# Altium footprint library Connector.PcbLib: 3 footprints
Each footprint in its own frame and in the unit in brackets; x right, y up, seen from the top. Pads: shape width x height; smd on the part's side, far side on the other; paste and mask are expansions set on the pad; w line width, h text height; cw(c..) or ccw(c..) is an arc to the next point about the centre after c.
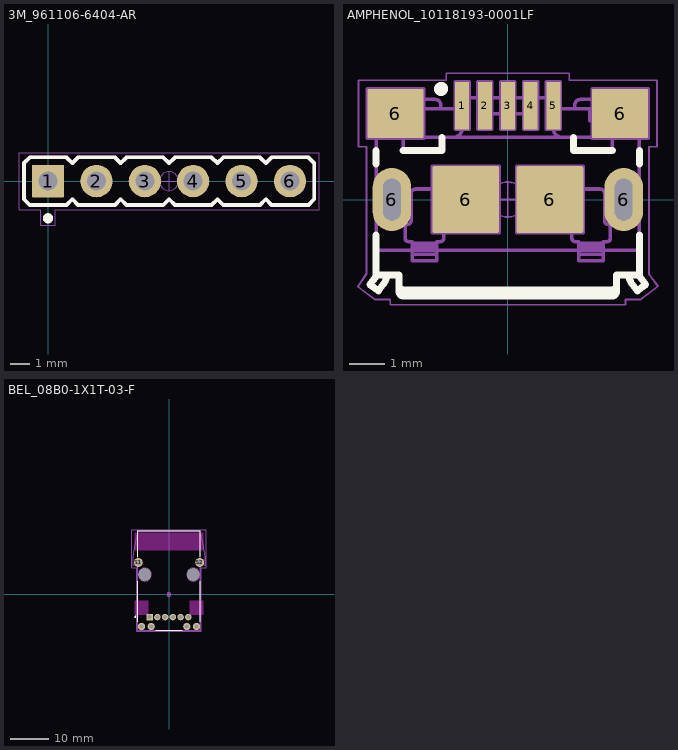
[diagram p0: the footprints below, top view; thin cyan lines are the x and y axes]

## 3M_961106-6404-AR [mm] "6 Contacts, Straight .100\" x .100\" Pin Strip Header, 961 Series"
height 8
pads (6):
  rrect5% 1.7x1.7 hole 1 mask+0.05: 1(0,0)
  round 1.7 hole 1 mask+0.05: 2(2.54,0) 3(5.08,0) 4(7.62,0) 5(10.16,0) 6(12.7,0)
Top Overlay:
  circle w0.27: c0,-1.95 r0.13
  lines w0.2: -1.265,-0.95 -1.265,0.95 -1.26,0.95 -0.96,1.25 0.97,1.25 1.27,0.95 1.28,0.95 1.58,1.25 3.51,1.25 3.81,0.95 3.82,0.95 4.12,1.25 6.05,1.25 6.35,0.95 6.36,0.95 6.66,1.25 8.59,1.25 8.89,0.95 8.9,0.95 9.2,1.25 11.13,1.25 11.43,0.95 11.44,0.95 11.74,1.25 13.67,1.25 13.97,0.95 13.98,0.95 13.98,-0.95 13.97,-0.95 13.67,-1.25 11.74,-1.25 11.44,-0.95 11.43,-0.95 11.13,-1.25 9.2,-1.25 8.9,-0.95 8.89,-0.95 8.59,-1.25 6.66,-1.25 6.36,-0.95 6.35,-0.95 6.05,-1.25 4.12,-1.25 3.82,-0.95 3.81,-0.95 3.51,-1.25 1.58,-1.25 1.28,-0.95 1.27,-0.95 0.97,-1.25 -0.96,-1.25 -1.26,-0.95 -1.265,-0.95
Top Component Outline:
  circle w0.27: c0,-1.95 r0.13
  lines w0.2: -1.265,-0.95 -1.26,-0.95 -0.96,-1.25 0.97,-1.25 1.27,-0.95 1.28,-0.95 1.58,-1.25 3.51,-1.25 3.81,-0.95 3.82,-0.95 4.12,-1.25 6.05,-1.25 6.35,-0.95 6.36,-0.95 6.66,-1.25 8.59,-1.25 8.89,-0.95 8.9,-0.95 9.2,-1.25 11.13,-1.25 11.43,-0.95 11.44,-0.95 11.74,-1.25 13.67,-1.25 13.97,-0.95 13.98,-0.95 13.98,0.95 13.97,0.95 13.67,1.25 11.74,1.25 11.44,0.95 11.43,0.95 11.13,1.25 9.2,1.25 8.9,0.95 8.89,0.95 8.59,1.25 6.66,1.25 6.36,0.95 6.35,0.95 6.05,1.25 4.12,1.25 3.82,0.95 3.81,0.95 3.51,1.25 1.58,1.25 1.28,0.95 1.27,0.95 0.97,1.25 -0.96,1.25 -1.26,0.95 -1.265,0.95 -1.265,-0.95 ; -0.312,-0.318 0.323,-0.318 0.323,0.318 -0.312,0.318 -0.312,-0.318 ; 2.228,-0.318 2.228,0.318 2.863,0.318 2.863,-0.318 2.228,-0.318 ; 4.768,-0.318 4.768,0.318 5.403,0.318 5.403,-0.318 4.768,-0.318 ; 7.308,-0.318 7.943,-0.318 7.943,0.318 7.308,0.318 7.308,-0.318 ; 9.848,-0.318 10.483,-0.318 10.483,0.318 9.848,0.318 9.848,-0.318 ; 12.388,-0.318 12.388,0.318 13.023,0.318 13.023,-0.318 12.388,-0.318
Top Courtyard:
  lines w0.05: -1.525,-1.5 -0.375,-1.5 -0.375,-2.325 0.375,-2.325 0.375,-1.5 14.225,-1.5 14.225,1.5 -1.525,1.5 -1.525,-1.5
Top Component Center:
  circle w0.05: c6.35,0 r0.5
  lines w0.05: -0.5,0 0,0 ; 0,-0.5 0,0 ; 0,0.5 0,0 ; 0.5,0 0,0 ; 2.04,0 2.54,0 ; 2.54,-0.5 2.54,0 ; 2.54,0.5 2.54,0 ; 3.04,0 2.54,0 ; 4.58,0 5.08,0 ; 5.08,-0.5 5.08,0 ; 5.08,0.5 5.08,0 ; 5.58,0 5.08,0 ; 5.85,0 6.35,0 ; 6.35,-0.5 6.35,0 ; 6.35,0.5 6.35,0 ; 6.85,0 6.35,0 ; 7.12,0 7.62,0 ; 7.62,-0.5 7.62,0 ; 7.62,0.5 7.62,0 ; 8.12,0 7.62,0 ; 9.66,0 10.16,0 ; 10.16,-0.5 10.16,0 ; 10.16,0.5 10.16,0 ; 10.66,0 10.16,0 ; 12.2,0 12.7,0 ; 12.7,-0.5 12.7,0 ; 12.7,0.5 12.7,0 ; 13.2,0 12.7,0
Top Designator:
  text "'.Designator'" at 1.466,-0.448 h2
Top Assembly:
  circle w0.27: c0,-1.95 r0.13
  lines w0.2: -1.27,-0.95 -1.265,-0.95 -0.965,-1.25 0.965,-1.25 1.265,-0.95 1.275,-0.95 1.575,-1.25 3.505,-1.25 3.805,-0.95 3.815,-0.95 4.115,-1.25 6.045,-1.25 6.345,-0.95 6.355,-0.95 6.655,-1.25 8.585,-1.25 8.885,-0.95 8.895,-0.95 9.195,-1.25 11.125,-1.25 11.425,-0.95 11.435,-0.95 11.735,-1.25 13.665,-1.25 13.965,-0.95 13.975,-0.95 13.975,0.95 13.965,0.95 13.665,1.25 11.735,1.25 11.435,0.95 11.425,0.95 11.125,1.25 9.195,1.25 8.895,0.95 8.885,0.95 8.585,1.25 6.655,1.25 6.355,0.95 6.345,0.95 6.045,1.25 4.115,1.25 3.815,0.95 3.805,0.95 3.505,1.25 1.575,1.25 1.275,0.95 1.265,0.95 0.965,1.25 -0.965,1.25 -1.265,0.95 -1.27,0.95 -1.27,-0.95 ; -0.318,-0.318 0.318,-0.318 0.318,0.318 -0.318,0.318 -0.318,-0.318 ; 2.222,-0.318 2.222,0.318 2.857,0.318 2.857,-0.318 2.222,-0.318 ; 4.763,-0.318 4.763,0.318 5.397,0.318 5.397,-0.318 4.763,-0.318 ; 7.302,-0.318 7.938,-0.318 7.938,0.318 7.302,0.318 7.302,-0.318 ; 9.842,-0.318 10.477,-0.318 10.477,0.318 9.842,0.318 9.842,-0.318 ; 12.383,-0.318 12.383,0.318 13.018,0.318 13.018,-0.318 12.383,-0.318
  text "'.Designator'" at 1.466,-0.448 h2
3D body "3M_961106-6404-AR.stp": height 9.3, standoff -3.3, extent -1.27,-1.25 13.975,1.25

## AMPHENOL_10118193-0001LF [mm] "Right Angle Micro-USB 2 Type B Receptacle"
height 3.1
pads (11):
  rrect5% 0.4x1.35 smd mask+0.02: 1(-1.3,2.675) 2(-0.65,2.675) 3(0,2.675) 4(0.65,2.675) 5(1.3,2.675)
  oval 1.1x1.8 hole 0.5 slot 1.2 at 90 deg mask+0.05: 6(-3.3,0) 6(3.3,0)
  rrect5% 1.6x1.4 smd mask+0.05: 6(-3.2,2.45) 6(3.2,2.45)
  rrect5% 1.9x1.9 smd mask+0.05: 6(-1.2,0) 6(1.2,0)
Top Overlay:
  circle w0.2: c-1.9,3.15 r0.1
  lines w0.2: -3.75,-1.011 -3.75,-2.15 ; -3.75,1.011 -3.75,1.4 ; -3.449,-2.15 cw(c-3.854,-2.148) -3.531,-2.391 -3.689,-2.601 -3.928,-2.42 -3.77,-2.21 ccw(c-3.85,-2.15) -3.75,-2.15 ; -3.1,-2.451 ccw(c-2.963,-2.434) -2.95,-2.571 ; -3.1,-2.154 -3.1,-2.629 ccw(c-2.963,-2.613) -2.95,-2.75 2.95,-2.75 ccw(c2.963,-2.613) 3.1,-2.629 3.1,-2.15 3.75,-2.15 ; -3.1,-2.15 -3.75,-2.15 ; -2.98,1.39 -1.87,1.39 -1.87,1.77 ; 1.87,1.77 1.87,1.39 2.98,1.39 ; 3.1,-2.451 cw(c2.963,-2.434) 2.95,-2.571 ; 3.45,-2.15 ccw(c3.851,-2.15) 3.531,-2.391 3.689,-2.601 3.928,-2.42 3.77,-2.21 cw(c3.85,-2.15) 3.75,-2.15 ; 3.75,-1.011 3.75,-2.15 ; 3.75,1.011 3.75,1.4 ; -2.95,-2.571 2.95,-2.571 ; -2.95,-2.571 2.95,-2.571
Top Component Outline:
  circle w0.2: c-1.9,3.15 r0.1
  lines w0.1: -3.449,-2.15 cw(c-3.854,-2.148) -3.531,-2.391 -3.689,-2.601 -3.928,-2.42 -3.77,-2.21 ccw(c-3.85,-2.15) -3.75,-2.15 ; -3.1,-2.451 ccw(c-2.963,-2.434) -2.95,-2.571 ; -3.1,-2.154 -3.1,-2.629 ccw(c-2.963,-2.613) -2.95,-2.75 2.95,-2.75 ccw(c2.963,-2.613) 3.1,-2.629 3.1,-2.15 3.75,-2.15 ; -3.1,-2.15 -3.75,-2.15 ; -2.98,1.779 -2.98,1.39 -1.87,1.39 -1.87,1.77 1.87,1.77 1.87,1.39 2.98,1.39 2.98,1.779 ; -2.725,-1.563 -2.025,-1.563 ; -2.725,-1.35 -2.025,-1.35 ; -2.725,-1.25 -2.025,-1.25 ; -1.911,2.58 -1.911,2.7 ccw(c-2.061,2.7) -2.061,2.85 -3.75,2.85 -3.75,-2.15 ; -1.42,2.58 -1.42,2.9 1.42,2.9 1.42,2.58 ; -1.3,2.58 -2.427,2.58 -2.427,2.25 -2.905,2.25 ccw(c-2.919,2.05) -3.12,2.05 -3.12,1.97 ccw(c-2.92,1.97) -2.922,1.77 -1.55,1.77 ccw(c-1.55,2.02) -1.3,2.02 -1.3,2.9 ; -0.65,2.9 -0.65,2.6 ccw(c-0.5,2.6) -0.5,2.45 0.5,2.45 ccw(c0.5,2.6) 0.65,2.595 0.65,2.9 ; 1.3,2.58 2.33,2.58 2.33,2.25 2.92,2.25 cw(c2.92,2.05) 3.12,2.05 3.12,1.97 cw(c2.92,1.97) 2.92,1.77 1.55,1.77 cw(c1.55,2.02) 1.3,2.02 1.3,2.9 ; 1.911,2.58 1.911,2.7 cw(c2.061,2.7) 2.061,2.85 3.75,2.85 3.75,-2.15 ; 2.025,-1.563 2.725,-1.563 ; 2.025,-1.35 2.725,-1.35 ; 2.025,-1.25 2.725,-1.25 ; 3.1,-2.451 cw(c2.963,-2.434) 2.95,-2.571 ; 3.45,-2.15 ccw(c3.851,-2.15) 3.531,-2.391 3.689,-2.601 3.928,-2.42 3.77,-2.21 cw(c3.85,-2.15) 3.75,-2.15 ; -2.95,-2.571 2.95,-2.571 ; -2.95,-2.571 2.95,-2.571 ; -2.925,-1.1 ccw(c-2.825,-1.1) -2.825,-1.2 -2.725,-1.2 -2.725,-1.742 -2.025,-1.742 -2.025,-1.2 -1.925,-1.2 ccw(c-1.925,-1.1) -1.825,-1.1 -1.825,-0.8 ccw(c-1.925,-0.8) -1.91,-0.701 cw(c-1.895,-0.602) -1.995,-0.602 -1.995,0.17 ccw(c-2.125,0.17) -2.125,0.3 -2.625,0.3 ccw(c-2.625,0.17) -2.755,0.17 -2.755,-0.602 cw(c-2.855,-0.602) -2.84,-0.701 ccw(c-2.825,-0.8) -2.925,-0.8 -2.925,-1.1 ; 1.825,-1.1 ccw(c1.925,-1.1) 1.925,-1.2 2.025,-1.2 2.025,-1.742 2.725,-1.742 2.725,-1.2 2.825,-1.2 ccw(c2.825,-1.1) 2.925,-1.1 2.925,-0.8 ccw(c2.825,-0.8) 2.84,-0.701 cw(c2.855,-0.602) 2.755,-0.602 2.755,0.17 ccw(c2.625,0.17) 2.625,0.3 2.125,0.3 ccw(c2.125,0.17) 1.995,0.17 1.995,-0.602 cw(c1.895,-0.602) 1.91,-0.701 ccw(c1.925,-0.8) 1.825,-0.8 1.825,-1.1
Top Courtyard:
  lines w0.05: -4.267,-2.479 -4.025,-2.113 -4.025,1.5 -4.25,1.5 -4.25,3.4 -1.75,3.4 -1.75,3.6 1.75,3.6 1.75,3.4 4.25,3.4 4.25,1.5 4.025,1.5 4.025,-2.133 4.279,-2.469 3.773,-2.851 3.35,-2.851 3.35,-3 -3.35,-3 -3.35,-2.851 -3.773,-2.851 -4.267,-2.479
Top Component Center:
  circle w0.05: c0,0 r0.5
  lines w0.05: -0.5,0 0,0 ; 0,-0.5 0,0 ; 0,0.5 0,0 ; 0.5,0 0,0
  lines w0.1: -3.75,-1.45 0,-1.45 3.75,-1.45 ; -3.75,0 -3.3,0 ; -3.3,-0.8 -3.3,0 ; -3.3,0.8 -3.3,0 ; -2.85,0 -3.3,0 ; 2.85,0 3.3,0 ; 3.3,-0.8 3.3,0 ; 3.3,0.8 3.3,0 ; 3.75,0 3.3,0 ; -4,1.75 -4,3.15 ; -4,1.75 -3.2,2.45 -4,3.15 ; -4,1.75 -2.4,1.75 -2.4,3.15 -4,3.15 ; -2.15,-0.95 -0.25,-0.95 ; -2.15,-0.95 -1.2,0 -0.25,-0.95 ; -2.15,-0.95 -2.15,0.95 -0.25,0.95 -0.25,-0.95 ; -1.5,3.35 -1.5,2 -1.1,2 -1.1,3.35 ; -1.5,3.35 -1.3,2.675 -1.1,3.35 ; -1.5,3.35 -1.1,3.35 ; -0.85,3.35 -0.85,2 -0.45,2 -0.45,3.35 ; -0.85,3.35 -0.65,2.675 -0.45,3.35 ; -0.85,3.35 -0.45,3.35 ; -0.2,3.35 -0.2,2 0.2,2 0.2,3.35 ; -0.2,3.35 0,2.675 0.2,3.35 ; -0.2,3.35 0.2,3.35 ; 0.25,-0.95 1.2,0 2.15,-0.95 ; 0.25,-0.95 2.15,-0.95 ; 0.25,-0.95 0.25,0.95 2.15,0.95 2.15,-0.95 ; 0.45,3.35 0.45,2 0.85,2 0.85,3.35 ; 0.45,3.35 0.65,2.675 0.85,3.35 ; 0.45,3.35 0.85,3.35 ; 1.1,3.35 1.1,2 1.5,2 1.5,3.35 ; 1.1,3.35 1.3,2.675 1.5,3.35 ; 1.1,3.35 1.5,3.35 ; 4,1.75 2.4,1.75 2.4,3.15 4,3.15 ; 4,1.75 3.2,2.45 4,3.15 ; 4,1.75 4,3.15 ; -3.75,-0.35 ccw(c-3.3,-0.35) -2.85,-0.35 -2.85,0.35 ccw(c-3.3,0.35) -3.75,0.35 -3.75,-0.35 ; -3.55,-0.35 ccw(c-3.3,-0.35) -3.05,-0.35 -3.05,0.35 ccw(c-3.3,0.35) -3.55,0.35 -3.55,-0.35 ; 2.85,-0.35 ccw(c3.3,-0.35) 3.75,-0.35 3.75,0.35 ccw(c3.3,0.35) 2.85,0.35 2.85,-0.35 ; 3.05,-0.35 ccw(c3.3,-0.35) 3.55,-0.35 3.55,0.35 ccw(c3.3,0.35) 3.05,0.35 3.05,-0.35
Top Designator:
  text "'.Designator'" at -4.884,-0.448 h2
Top Assembly:
  circle w0.2: c-1.9,3.15 r0.1
  lines w0.1: -3.449,-2.15 cw(c-3.854,-2.148) -3.531,-2.391 -3.689,-2.601 -3.928,-2.42 -3.77,-2.21 ccw(c-3.85,-2.15) -3.75,-2.15 ; -3.1,-2.451 ccw(c-2.963,-2.434) -2.95,-2.571 ; -3.1,-2.154 -3.1,-2.629 ccw(c-2.963,-2.613) -2.95,-2.75 2.95,-2.75 ccw(c2.963,-2.613) 3.1,-2.629 3.1,-2.15 3.75,-2.15 ; -3.1,-2.15 -3.75,-2.15 ; -2.98,1.779 -2.98,1.39 -1.87,1.39 -1.87,1.77 1.87,1.77 1.87,1.39 2.98,1.39 2.98,1.779 ; -2.725,-1.563 -2.025,-1.563 ; -2.725,-1.35 -2.025,-1.35 ; -2.725,-1.25 -2.025,-1.25 ; -1.911,2.58 -1.911,2.7 ccw(c-2.061,2.7) -2.061,2.85 -3.75,2.85 -3.75,-2.15 ; -1.42,2.58 -1.42,2.9 1.42,2.9 1.42,2.58 ; -1.3,2.58 -2.427,2.58 -2.427,2.25 -2.905,2.25 ccw(c-2.919,2.05) -3.12,2.05 -3.12,1.97 ccw(c-2.92,1.97) -2.922,1.77 -1.55,1.77 ccw(c-1.55,2.02) -1.3,2.02 -1.3,2.9 ; -0.65,2.9 -0.65,2.6 ccw(c-0.5,2.6) -0.5,2.45 0.5,2.45 ccw(c0.5,2.6) 0.65,2.595 0.65,2.9 ; 1.3,2.58 2.33,2.58 2.33,2.25 2.92,2.25 cw(c2.92,2.05) 3.12,2.05 3.12,1.97 cw(c2.92,1.97) 2.92,1.77 1.55,1.77 cw(c1.55,2.02) 1.3,2.02 1.3,2.9 ; 1.911,2.58 1.911,2.7 cw(c2.061,2.7) 2.061,2.85 3.75,2.85 3.75,-2.15 ; 2.025,-1.563 2.725,-1.563 ; 2.025,-1.35 2.725,-1.35 ; 2.025,-1.25 2.725,-1.25 ; 3.1,-2.451 cw(c2.963,-2.434) 2.95,-2.571 ; 3.45,-2.15 ccw(c3.851,-2.15) 3.531,-2.391 3.689,-2.601 3.928,-2.42 3.77,-2.21 cw(c3.85,-2.15) 3.75,-2.15 ; -2.95,-2.571 2.95,-2.571 ; -2.95,-2.571 2.95,-2.571 ; -2.925,-1.1 ccw(c-2.825,-1.1) -2.825,-1.2 -2.725,-1.2 -2.725,-1.742 -2.025,-1.742 -2.025,-1.2 -1.925,-1.2 ccw(c-1.925,-1.1) -1.825,-1.1 -1.825,-0.8 ccw(c-1.925,-0.8) -1.91,-0.701 cw(c-1.895,-0.602) -1.995,-0.602 -1.995,0.17 ccw(c-2.125,0.17) -2.125,0.3 -2.625,0.3 ccw(c-2.625,0.17) -2.755,0.17 -2.755,-0.602 cw(c-2.855,-0.602) -2.84,-0.701 ccw(c-2.825,-0.8) -2.925,-0.8 -2.925,-1.1 ; 1.825,-1.1 ccw(c1.925,-1.1) 1.925,-1.2 2.025,-1.2 2.025,-1.742 2.725,-1.742 2.725,-1.2 2.825,-1.2 ccw(c2.825,-1.1) 2.925,-1.1 2.925,-0.8 ccw(c2.825,-0.8) 2.84,-0.701 cw(c2.855,-0.602) 2.755,-0.602 2.755,0.17 ccw(c2.625,0.17) 2.625,0.3 2.125,0.3 ccw(c2.125,0.17) 1.995,0.17 1.995,-0.602 cw(c1.895,-0.602) 1.91,-0.701 ccw(c1.925,-0.8) 1.825,-0.8 1.825,-1.1
  text "'.Designator'" at -4.884,-0.448 h2
3D body "AMPHENOL_10118193-0001LF.stp": height 2.8, standoff -0.8, extent -3.928,-2.761 3.928,2.9

## BEL_08B0-1X1T-03-F [mil] "1 Port RJ45 Magjack Connector Through Hole 10/100 Base-T"
height 605.98
pads (14):
  rrect5% 66.93x66.93 hole 39.37 mask+1.97: 1(-200,-234)
  round 66.93 hole 39.37 mask+1.97: 2(-120,-234) 3(-40,-234) 4(40,-234) 5(120,-234) 6(200,-234)
  round 74.8 hole 45 mask+1.97: 7(-284,-331) 8(-184,-331) 9(184,-331) 10(284,-331)
  round 93 hole 62 mask+1.97: S1(-317.5,331) S2(317.5,331)
  round 128 hole 128 unplated mask+1.97: ""(-250,206) ""(250,206)
Top Overlay:
  circle w10.63: c-347.71,-230.67 r5.12
  lines w7.87: -321,-284 -321,136 ; -321,391 -321,661 321,661 321,391 ; -135,-369 135,-369 ; 321,-284 321,136
Keep-Out Layer:
  region: 355,456 -355,456 -355,636 355,636
  region: -215,-209 -355,-209 -355,-64 -215,-64
  region: 355,456 -355,456 -355,636 355,636
  region: -215,-209 -355,-209 -355,-64 -215,-64
  region: 355,-209 215,-209 215,-64 355,-64
  region: 355,-209 215,-209 215,-64 355,-64
Top Component Outline:
  circle w10.63: c-347.71,-230.67 r5.12
  lines w7.87: -375.9,298.23 cw(c587.26,315.04) -321.17,635.53 ; 321.27,635.22 cw(c-587.26,315.04) 375.9,298.23 ; -321,-369 321,-369 321,661 -321,661 -321,-369
Top Courtyard:
  lines w1.97: -386.02,274 -386.02,671 386.02,671 386.02,274 331,274 331,-379 -331,-379 -331,274 -386.02,274
Top Component Center:
  circle w1.97: c0,0 r19.68
  lines w1.97: -348.01,331 -317.5,331 ; -317.5,300.49 -317.5,331 ; -317.5,361.51 -317.5,331 ; -313.98,206 -250,206 ; -306.17,-331 -284,-331 ; -286.99,331 -317.5,331 ; -284,-353.17 -284,-331 ; -284,-308.83 -284,-331 ; -261.83,-331 -284,-331 ; -250,142.02 -250,206 ; -250,269.98 -250,206 ; -219.69,-233.96 -200,-233.96 ; -206.24,-331 -184.06,-331 ; -200,-253.65 -200,-233.96 ; -200,-234 -180.31,-234 ; -200,-214.28 -200,-233.96 ; -186.02,206 -250,206 ; -184.06,-353.18 -184.06,-331 ; -184.06,-308.82 -184.06,-331 ; -161.87,-331 -184.06,-331 ; -139.69,-233.96 -120,-233.96 ; -120,-253.65 -120,-233.96 ; -120,-234 -100.31,-234 ; -120,-214.28 -120,-233.96 ; -59.69,-233.96 -40,-233.96 ; -40,-253.65 -40,-233.96 ; -40,-234 -20.32,-234 ; -40,-214.28 -40,-233.96 ; -19.68,0 0,0 ; 0,-19.68 0,0 ; 0,19.68 0,0 ; 19.68,0 0,0 ; 20.32,-233.96 40,-233.96 ; 40,-253.65 40,-233.96 ; 40,-234 59.69,-234 ; 40,-214.28 40,-233.96 ; 100.28,-233.92 119.96,-233.92 ; 119.96,-253.61 119.96,-233.92 ; 119.96,-233.96 139.65,-233.96 ; 119.96,-214.24 119.96,-233.92 ; 161.87,-331 184.06,-331 ; 180.31,-233.92 200,-233.92 ; 184.06,-353.18 184.06,-331 ; 184.06,-308.82 184.06,-331 ; 186.02,206 250,206 ; 200,-253.61 200,-233.92 ; 200,-233.96 219.69,-233.96 ; 200,-214.24 200,-233.92 ; 206.24,-331 184.06,-331 ; 250,142.02 250,206 ; 250,269.98 250,206 ; 261.82,-331 284,-331 ; 284,-353.18 284,-331 ; 284,-308.82 284,-331 ; 286.83,331 317.34,331 ; 306.18,-331 284,-331 ; 313.98,206 250,206 ; 317.34,300.49 317.34,331 ; 317.34,361.51 317.34,331 ; 348.43,331 317.34,331
Top Designator:
  text "'.Designator'" at -96.14,-8.82 h39.37
Top Assembly:
  circle w10.63: c-347.71,-230.67 r5.12
  circle w7.87: c-199.8,-234.25 r23.62
  circle w7.87: c-120.08,-234.25 r23.62
  circle w7.87: c-40.35,-234.25 r23.62
  circle w7.87: c40.35,-234.25 r23.62
  circle w7.87: c120.08,-234.25 r23.62
  circle w7.87: c199.8,-234.25 r23.62
  circle w7.87: c-284.45,-331.69 r25.76
  circle w7.87: c-184.06,-330.71 r23.62
  circle w7.87: c184.06,-330.71 r23.62
  circle w7.87: c284.45,-330.71 r23.62
  circle w7.87: c-317.91,330.71 r35.43
  circle w7.87: c317.91,330.71 r35.43
  circle w3.94: c-250,205.71 r66.93
  circle w3.94: c250,205.71 r66.93
  lines w7.87: -375.9,298.23 cw(c587.26,315.04) -321.17,635.53 ; 321.27,635.22 cw(c-587.26,315.04) 375.9,298.23 ; -321,-369 321,-369 321,661 -321,661 -321,-369
  text "'.Designator'" at -96.14,-8.82 h39.37
3D body "08B0-1X1T-03-F--3DModel-STEP-56544.STEP": height 606, standoff -130, extent -374.89,-369.29 376.86,660.71